# Altium footprint library board.PcbLib: 19 footprints (part 2 of 2)
Each footprint in its own frame and in the unit in brackets; x right, y up, seen from the top. Pads: shape width x height; smd on the part's side, far side on the other; paste and mask are expansions set on the pad; w line width, h text height; cw(c..) or ccw(c..) is an arc to the next point about the centre after c.
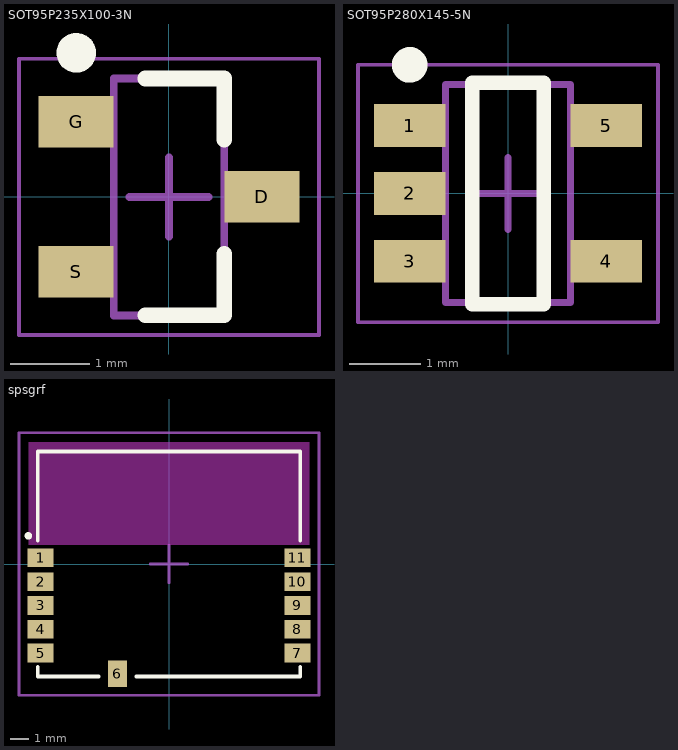
[diagram p1: the footprints below, top view; thin cyan lines are the x and y axes]

## SOT95P235X100-3N [mm] "SOT23, 3-Leads, Body 2.90x2.35mm, Pitch 0.95mm, IPC Medium Density"
height 1
pads (3):
  rect 0.95x0.65 smd: D(1.175,0) G(-1.175,0.95) S(-1.175,-0.95)
Top Overlay:
  circle w0.25: c-1.175,1.825 r0.125
  lines w0.2: -0.3,-1.5 0.7,-1.5 0.7,-0.725 ; -0.3,1.5 0.7,1.5 0.7,0.725
Mechanical 13:
  lines w0.1: -0.7,-1.5 -0.7,1.5 0.7,1.5 0.7,-1.5 -0.7,-1.5
Mechanical 15:
  lines w0.05: -1.9,-1.75 -1.9,1.75 1.9,1.75 1.9,-1.75 -1.9,-1.75
  lines w0.1: -0.5,0 0.5,0 ; 0,-0.5 0,0.5
3D body "SOT95P235X100-3N.step": height 1, standoff 0, extent -1.3,-1.5 1.3,1.5

## SOT95P280X145-5N [mm] "SOT23, 5-Leads, Body 2,90x2,80mm, Pitch 0,95mm, IPC Medium Density"
height 1.45
pads (5):
  rect 1x0.6 smd: 1(-1.375,0.95) 2(-1.375,0) 3(-1.375,-0.95) 4(1.375,-0.95) 5(1.375,0.95)
Top Overlay:
  circle w0.25: c-1.375,1.8 r0.125
  lines w0.2: -0.5,-1.55 -0.5,1.55 0.5,1.55 0.5,-1.55 -0.5,-1.55
Mechanical 13:
  lines w0.1: -0.875,-1.525 0.875,-1.525 0.875,1.525 -0.875,1.525 -0.875,-1.525
Mechanical 15:
  lines w0.05: -2.1,-1.8 2.1,-1.8 2.1,1.8 -2.1,1.8 -2.1,-1.8
  lines w0.1: -0.5,0 0.5,0 ; 0,-0.5 0,0.5
3D body "SOT95P280X145-5N.step": height 1.45, standoff 0.02, extent -1.475,-1.525 1.475,1.525

## spsgrf [mm]
pads (11):
  rect 1.4x1 smd: 1(-6.85,0.33) 2(-6.85,-0.94) 3(-6.85,-2.21) 4(-6.85,-3.48) 5(-6.85,-4.75) 7(6.85,-4.75) 8(6.85,-3.48) 9(6.85,-2.21) 10(6.85,-0.94) 11(6.85,0.33)
  rect 1x1.4 smd: 6(-2.75,-5.85)
Top Overlay:
  circle w0.2: c-7.5,1.5 r0.1
  lines w0.2: -7,-5.5 -7,-6 -3.75,-6 ; -7,1.25 -7,6 7,6 7,1.25 ; -1.75,-6 7,-6 7,-5.5
Keep-Out Layer:
  rectangle: -7.5,1 7.5,6.5
Mechanical 15:
  lines w0.152: -1,0 1,0 ; 0,-1 0,1 ; -8,-7 8,-7 8,7 -8,7 -8,-7
3D body "spsgrf.STEP": height 2, standoff 0, extent -6.75,-5.75 6.75,5.75
3D body: height 5, standoff 0, extent -1,3.5 -1,3.5